# Altium schematic symbol library Components.SchLib: 34 symbols
Pins are listed as number, name and electrical type; pins without a type are passive.

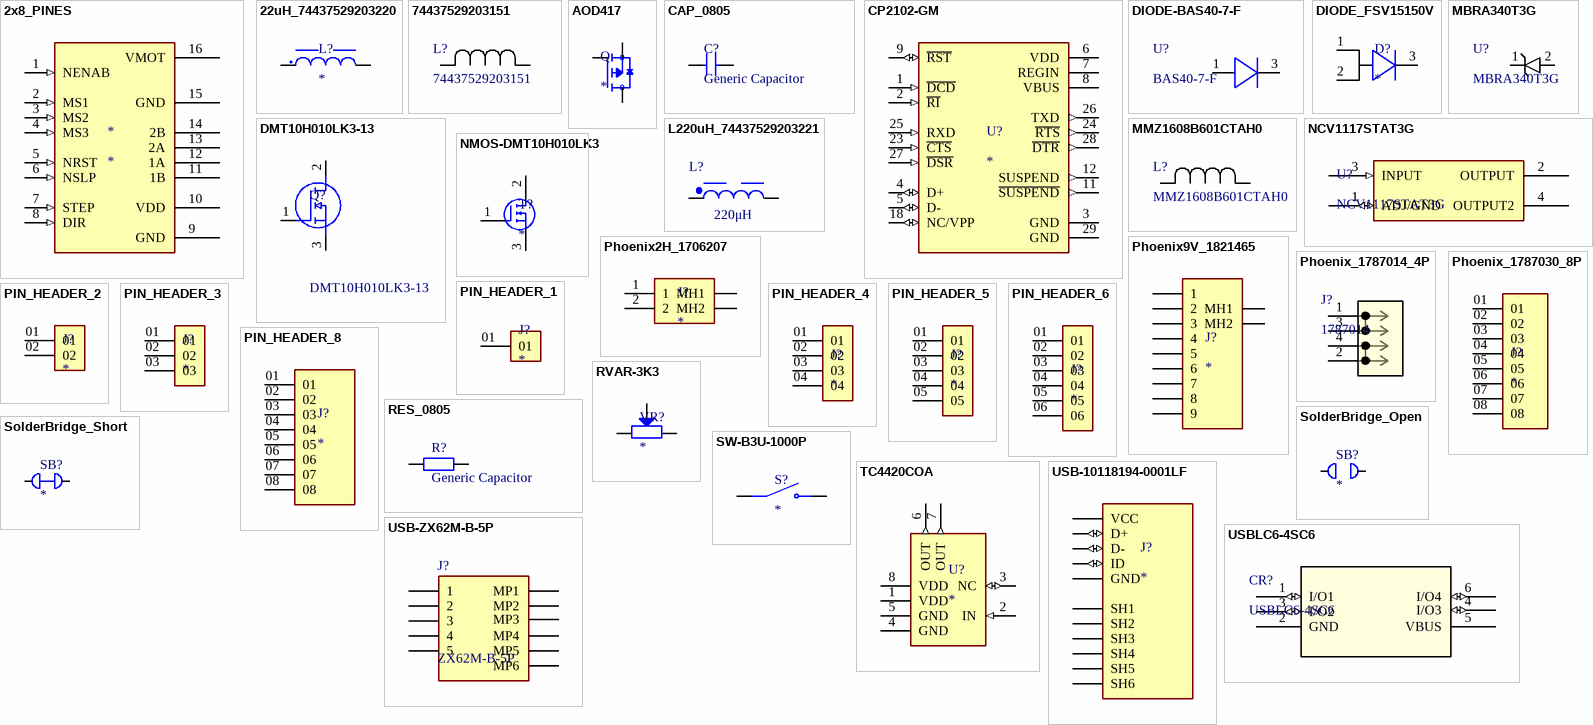
[diagram p0: symbols 2x8_PINES to USBLC6-4SC6]

## 2x8_PINES
designator *
footprint PINES8x2-sep
pins: 1 NENAB (in), 2 MS1 (in), 3 MS2 (in), 4 MS3 (in), 5 NRST (in), 6 NSLP (in), 7 STEP (in), 8 DIR (in), 9 GND, 10 VDD, 11 1B, 12 1A, 13 2A, 14 2B, 15 GND, 16 VMOT

## 22uH_74437529203220
designator L?
MF: {'manufacturer': u'W\xfcrth Elektronik'}; MP: 74437529203220; Package: None; Price: None; Value: *; Availability: Unavailable
footprint WE-HCF_2920_ROUND
pins: 1, 2

## 74437529203151
designator L?
WE-HCF Round SMT High Current Inductor; Manufacturer_Name: Wurth Electronics; Copyright: Copyright (C) 2025 Ultra Librarian. All rights reserved.; Manufacturer_Part_Number: 74437529203151
footprint IND_WE-HCF_2920_WRE-L
pins: 1, 2

## AOD417
designator Q
P-Channel 30V 25A _Ta_ 2.5W _Ta_, 50W _Tc_ Surface Mount TO-252, _D-Pak_; MP: AOD417; MF: Alpha &; SnapEDA_Link: https://www.snapeda.com/parts/AOD417/Alpha%20%26%20Omega%20Semiconductor%20Inc./view-part/454934/?ref=snap; Availability: Unavailable; Price: None; Package: TO-252 Alpha &amp; Omega Semiconductor; Value: *
footprint DPAK228P994X240_3N
pins: 1 G, 3 S, 4 D

## CAP_0805
designator C?, comment Generic Capacitor
footprint RES_0805 (Chip Resistor, 2-Leads, Body 2.00x1.25mm, IPC Medium Density)
pins: 1, 2

## CP2102-GM
designator U?
USB Bridge, USB to UART USB 2.0 UART Interface 28-QFN (5x5); MF: Silicon Labs; MP: CP2102-GM; SnapEDA_Link: https://www.snapeda.com/parts/CP2102-GM/Silicon+Labs/view-part/?ref=snap; Package: QFN-28 Silicon Labs; Value: *; Check_prices: https://www.snapeda.com/parts/CP2102-GM/Silicon+Labs/view-part/?ref=eda
footprint QFN50P500X500X100-29N
pins: 1 ~{DCD} (in), 2 ~{RI} (in), 3 GND (power), 4 D+ (io), 5 D- (io), 6 VDD (power), 7 REGIN (power), 8 VBUS (power), 9 ~{RST} (io), 11 ~{SUSPEND} (out), 12 SUSPEND (out), 18 NC/VPP (io), 23 ~{CTS} (in), 24 ~{RTS} (out), 25 RXD (in), 26 TXD (out), 27 ~{DSR} (in), 28 ~{DTR} (out), 29 GND (power)

## DIODE-BAS40-7-F
designator U?, comment BAS40-7-F
Description; Manufacturer_Name: Diodes Inc; Type: Diodes - Rectifiers, Single; Copyright: Copyright (C) 2025 Ultra Librarian. All rights reserved.; Manufacturer_Part_Number: BAS40-7-F; RefDes: RefDes
footprint SOT-23_DIO-M
pins: 1 A, 3 C

## DIODE_FSV15150V
designator D?
footprint FSV15150V_TO-277
pins: 1 A, 2, 3 C

## DMT10H010LK3-13
designator Q?
Trans MOSFET N-CH 100V 68.8A 3-Pin(2+Tab) DPAK T/R; Manufacturer_Name: Diodes Incorporated; Geometry.Height: 2.52mm; Manufacturer_Part_Number: DMT10H010LK3-13; Mouser Part Number: 621-DMT10H010LK3-13; Mouser Price/Stock: https://www.mouser.co.uk/ProductDetail/Diodes-Incorporated/DMT10H010LK3-13?qs=G1ssh2j%252Bqz60V1cxRZeMFA%3D%3D; Arrow Part Number: DMT10H010LK3-13; Arrow Price/Stock: https://www.arrow.com/en/products/dmt10h010lk3-13/diodes-incorporated?region=nac; Datasheet Link: https://www.diodes.com//assets/Datasheets/DMT10H010LK3.pdf
footprint DMT10H010LK313
pins: 1 G, 2 D, 3 S

## L220uH_74437529203221
designator L?, comment 220μH
WE-HCF SMT High Current Inductor, size 2920, 220μH, 8.15A, 40.1mΩ; Manufacturer Part Number: 74437529203221; Manufacturer: Wurth Elektronik; Case/Size Code: 2920; Saturation Current @ 10%: 4.1A; Saturation Current @ 30%: 5.3A; Self Resonant Frequency: 2.8MHz; Category: Power Inductors; Match Code: WE-HCF; ComponentLink1Description: Website Link; ComponentLink1URL: https://www.we-online.com/redexpert/article/74437529203221?ad; ComponentLink2Description: Datasheet Link; ComponentLink2URL: https://www.we-online.com/redexpert/spec/74437529203221?ad; Mount: Surface Mount; Min Operating Temperature: -40°C; Max Operating Temperature: 125°C; Packaging: Tray; Length: 28mm; Width: 25mm; Height: 20.5mm; DC Resistance Max: 40.1mΩ; Inductance: 220μH; Performance Rated Current: 8.15A
footprint WE-HCF_2920
simulation model 2920_74437529203221_220u
pins: 1, 2

## MBRA340T3G
designator U?
Description; Manufacturer_Name: onsemi; Copyright: Copyright (C) 2025 Ultra Librarian. All rights reserved.; Manufacturer_Part_Number: MBRA340T3G; RefDes: RefDes; Type: Type
footprint SMA_ONS
pins: 1 CATHODE, 2 ANODE

## MMZ1608B601CTAH0
designator L?
INDUCTOR; SMT (0603); FERRITE-BEAD; 600; TOL=+/-25%; 0.5A; -55 DEGC TO +125 DEGC; Manufacturer_Name: TDK; Copyright: Copyright (C) 2025 Ultra Librarian. All rights reserved.; Manufacturer_Part_Number: MMZ1608B601CTAH0
footprint IND_1608_TDK-M
pins: 1, 2

## NCV1117STAT3G
designator U?
Description; Manufacturer_Name: onsemi; Copyright: Copyright (C) 2025 Ultra Librarian. All rights reserved.; Manufacturer_Part_Number: NCV1117STAT3G; RefDes: RefDes; Type: Type
footprint SOT223-3_ONS-M
pins: 1 ADJ/GND (io), 2 OUTPUT, 3 INPUT (in), 4 OUTPUT2

## NMOS-DMT10H010LK3
designator T?
footprint MOSFET_TRANS_2DB1184Q-13
pins: 1 G, 2 D, 3 S

## Phoenix2H_1706207
designator J?
MP: 1706207; Package: None; Price: None; Value: *; Availability: Unavailable
footprint PHOENIX_1706207
pins: 1, 2, MH1, MH2

## Phoenix9V_1821465
designator J?
MF: {'manufacturer': u'Phoenix Contact'}; MP: 1821465; Package: None; Price: None; Value: *; Availability: Unavailable
footprint PHOENIX_1821465
pins: 1, 2, 3, 4, 5, 6, 7, 8, 9, MH1, MH2

## Phoenix_1787014_4P
designator J?, comment 1787014
PCB headers, nominal cross section: 1.5 mmÂ², color: black, nominal current: 8 A, rated voltage (III/2): 160 V, contact surface: Tin, contact connection type: Pin, number of potentials: 4, number of rows: 2, number of positions: 2, number of connections: 4, product range: DMC 1,5/..-G1F-THR, pitch: 3.5 mm, mounting: THR soldering, pin layout: Linear pinning, solder pin [P]: 2 mm, number of solder pins per potential: 1, plug-in system: COMBICON DFMC 1,5, Pin connector pattern alignment: Standard, locking: Snap-in locking, mounting: Lock &amp; release threaded flange, type of packaging: packed in cardboard; Manufacturer_Name: Phoenix Contact; Type: Headers, Plugs and Sockets; Copyright: Copyright (C) 2025 Ultra Librarian. All rights reserved.; Manufacturer_Part_Number: 1787014; RefDes: RefDes
footprint CONN4_1787014_PXC
pins: 1, 2, 3, 4

## Phoenix_1787030_8P
designator J?
8 Position Terminal Block Header, Male Pins, Shrouded (4 Side) 0.138 (3.50mm) 90°, Right Angle - Through Hole; MF: Phoenix Contact; MP: 1787030; SnapEDA_Link: https://www.snapeda.com/parts/1787030/Phoenix+Contact/view-part/?ref=snap; Package: None; Value: *; Check_prices: https://www.snapeda.com/parts/1787030/Phoenix+Contact/view-part/?ref=eda
footprint PHOENIX_1787030
pins: 01, 02, 03, 04, 05, 06, 07, 08

## PIN_HEADER_1
designator J?
Generic 40 mils drill size, 100 mils step; MF: Samtec; MP: TS-101-T-AA; SnapEDA_Link: https://www.snapeda.com/parts/TS-101-T-AA/Samtec/view-part/?ref=snap; Package: None; Value: *; Check_prices: https://www.snapeda.com/parts/TS-101-T-AA/Samtec/view-part/?ref=eda
footprint GEN_PIN1 (Generic 40 mils drill size, 100 mils step)
pins: 01

## PIN_HEADER_2
designator J?
Generic 40 mils drill size, 100 mils step; MF: Samtec; MP: TS-102-T-A-1; Value: *; Price: None; Package: None; Check_prices: https://www.snapeda.com/parts/TS-102-T-A-1/Samtec/view-part/?ref=eda; Availability: In Stock; SnapEDA_Link: https://www.snapeda.com/parts/TS-102-T-A-1/Samtec/view-part/?ref=snap; Purchase-URL: https://pricing.snapeda.com/search/part/TS-102-T-A-1/?ref=eda
footprint GEN_PIN2 (Generic 40 mils drill size, 100 mils step)
pins: 01, 02

## PIN_HEADER_3
designator J?
Generic 40 mils drill size, 100 mils step; MF: Samtec Inc.; MP: TS-103-T-A; SnapEDA_Link: https://www.snapeda.com/parts/TS-103-T-A/Samtec+Inc./view-part/?ref=snap; Package: None; Value: *; Check_prices: https://www.snapeda.com/parts/TS-103-T-A/Samtec+Inc./view-part/?ref=eda
footprint GEN_PIN3 (Generic 40 mils drill size, 100 mils step)
pins: 01, 02, 03

## PIN_HEADER_4
designator J?
Generic 40 mils drill size, 100 mils step; MF: Samtec Inc.; MP: TS-104-T-A; Check_prices: https://www.snapeda.com/parts/TS-104-T-A/Samtec+Inc./view-part/?ref=eda; Value: *; Availability: In Stock; Price: None; Package: None; SnapEDA_Link: https://www.snapeda.com/parts/TS-104-T-A/Samtec+Inc./view-part/?ref=snap; Purchase-URL: https://pricing.snapeda.com/search/part/TS-104-T-A/?ref=eda
footprint GEN_PIN4 (Generic 40 mils drill size, 100 mils step)
pins: 01, 02, 03, 04

## PIN_HEADER_5
designator J?
Generic 40 mils drill size, 100 mils step; MF: Samtec Inc.; MP: TS-105-T-A; Package: None; Check_prices: https://www.snapeda.com/parts/TS-105-T-A/Samtec+Inc./view-part/?ref=eda; Availability: In Stock; Value: *; Purchase-URL: https://pricing.snapeda.com/search/part/TS-105-T-A/?ref=eda; Price: None; SnapEDA_Link: https://www.snapeda.com/parts/TS-105-T-A/Samtec+Inc./view-part/?ref=snap
footprint GEN_PIN5 (Generic 40 mils drill size, 100 mils step)
pins: 01, 02, 03, 04, 05

## PIN_HEADER_6
designator J?
Generic 40 mils drill size, 100 mils step; MF: Samtec Inc.; MP: TS-106-T-A; SnapEDA_Link: https://www.snapeda.com/parts/TS-106-T-A/Samtec+Inc./view-part/?ref=snap; Package: None; Value: *; Check_prices: https://www.snapeda.com/parts/TS-106-T-A/Samtec+Inc./view-part/?ref=eda
footprint GEN_PIN6 (Generic 40 mils drill size, 100 mils step)
pins: 01, 02, 03, 04, 05, 06

## PIN_HEADER_8
designator J?
Generic 40 mils drill size, 100 mils step; MF: Samtec; MP: TS-108-T-A; SnapEDA_Link: https://www.snapeda.com/parts/TS-108-T-A/Samtec/view-part/?ref=snap; Package: None; Value: *; Check_prices: https://www.snapeda.com/parts/TS-108-T-A/Samtec/view-part/?ref=eda
footprint GEN_PIN8 (Generic 40 mils drill size, 100 mils step)
pins: 01, 02, 03, 04, 05, 06, 07, 08

## RES_0805
designator R?, comment Generic Capacitor
footprint RES_0805 (Chip Resistor, 2-Leads, Body 2.00x1.25mm, IPC Medium Density)
pins: 1, 2

## RVAR-3K3
designator VR?
3/8 Sq, Thru-Hole, TRIMMER, 3.3 Kilohms, Cermet, 25 Turns, Pwr-Rtg 0.5W | Bourns 3296W-1-332LF; SnapEDA_Link: https://www.snapeda.com/parts/3296W-1-332LF/Bourns/view-part/?ref=snap; Package: NON STANDARD-3 Bourns; Value: *; MF: Bourns; MP: 3296W-1-332LF; Check_prices: https://www.snapeda.com/parts/3296W-1-332LF/Bourns/view-part/?ref=eda
footprint TRIM_3296W-1-332LF
pins: 1 CCW, 2 WIPER, 3 CW

## SolderBridge_Open
designator SB?
footprint SolderBridge_Open
pins: 1, 2

## SolderBridge_Short
designator SB?
footprint SolderBridge_Short
pins: 1, 2

## SW-B3U-1000P
designator S?
Switch Tactile N.O. SPST Round Button Gull Wing 0.05A 12VDC 1.5N SMD Embossed T/R; MP: B3U-1000P; Price: None; Availability: Unavailable; Value: *; Package: None
footprint SW_B3U-1000P
pins: 1, 2

## TC4420COA
designator U?
Microchip TC4420COA,MOSFET Power Driver 6A,4.5 to 18V,Non-Inverting,8-Pin SOIC | Microchip Technology Inc. TC4420COA; SnapEDA_Link: https://www.snapeda.com/parts/TC4420COA/Microchip/view-part/?ref=snap; Package: SOIC-8 Microchip; Value: *; MF: Microchip Technology; MP: TC4420COA; Check_prices: https://www.snapeda.com/parts/TC4420COA/Microchip/view-part/?ref=eda
footprint SOIC127P599X175-8N
pins: 1 VDD (power), 2 IN (in), 3 NC (io), 4 GND (power), 5 GND (power), 6 OUT (out), 7 OUT (out), 8 VDD (power)

## USB-10118194-0001LF
designator J?
Micro USB, Input Output Connectors, B TYPE RECEPTACLE with flange; MF: Amphenol ICC; MP: 10118194-0001LF; SnapEDA_Link: https://www.snapeda.com/parts/10118194-0001LF/Amphenol+FCI/view-part/?ref=snap; Package: None; Value: *; Check_prices: https://www.snapeda.com/parts/10118194-0001LF/Amphenol+FCI/view-part/?ref=eda
footprint AMPHENOL_10118194-0001LF
pins: 1 VCC (power), 2 D- (io), 3 D+ (io), 4 ID (io), 5 GND (power), SH1, SH2, SH3, SH4, SH5, SH6

## USB-ZX62M-B-5P
designator J?, comment ZX62M-B-5P
USB Connectors MICRO B RECEPT RA SMT MID MNT; Manufacturer_Name: Hirose; Geometry.Height: 3.35mm; Mouser Part Number: 798-ZX62M-B-5P; Mouser Price/Stock: https://www.mouser.co.uk/ProductDetail/Hirose-Connector/ZX62M-B-5P/?qs=XQjbzJWzFPU70kbvuQun8w%3D%3D; Manufacturer_Part_Number: ZX62M-B-5P; Datasheet Link: https://componentsearchengine.com/Datasheets/1/ZX62M-B-5P.pdf
footprint ZX62MB5P
pins: 1, 2, 3, 4, 5, MP1, MP2, MP3, MP4, MP5, MP6

## USBLC6-4SC6
designator CR?
Very low capacitance ESD protection; Manufacturer_Name: STMicroelectronics; Copyright: Copyright (C) 2025 Ultra Librarian. All rights reserved.; Manufacturer_Part_Number: USBLC6-4SC6; RefDes: RefDes; Type: Type
footprint SOT23-6L_STM-M
pins: 1 I/O1 (io), 2 GND (power), 3 I/O2 (io), 4 I/O3 (io), 5 VBUS (power), 6 I/O4 (io)